# Altium footprint library semicon-chip.PcbLib: 62 footprints (part 4 of 4)
Each footprint in its own frame and in the unit in brackets; x right, y up, seen from the top. Pads: shape width x height; smd on the part's side, far side on the other; paste and mask are expansions set on the pad; w line width, h text height; cw(c..) or ccw(c..) is an arc to the next point about the centre after c.
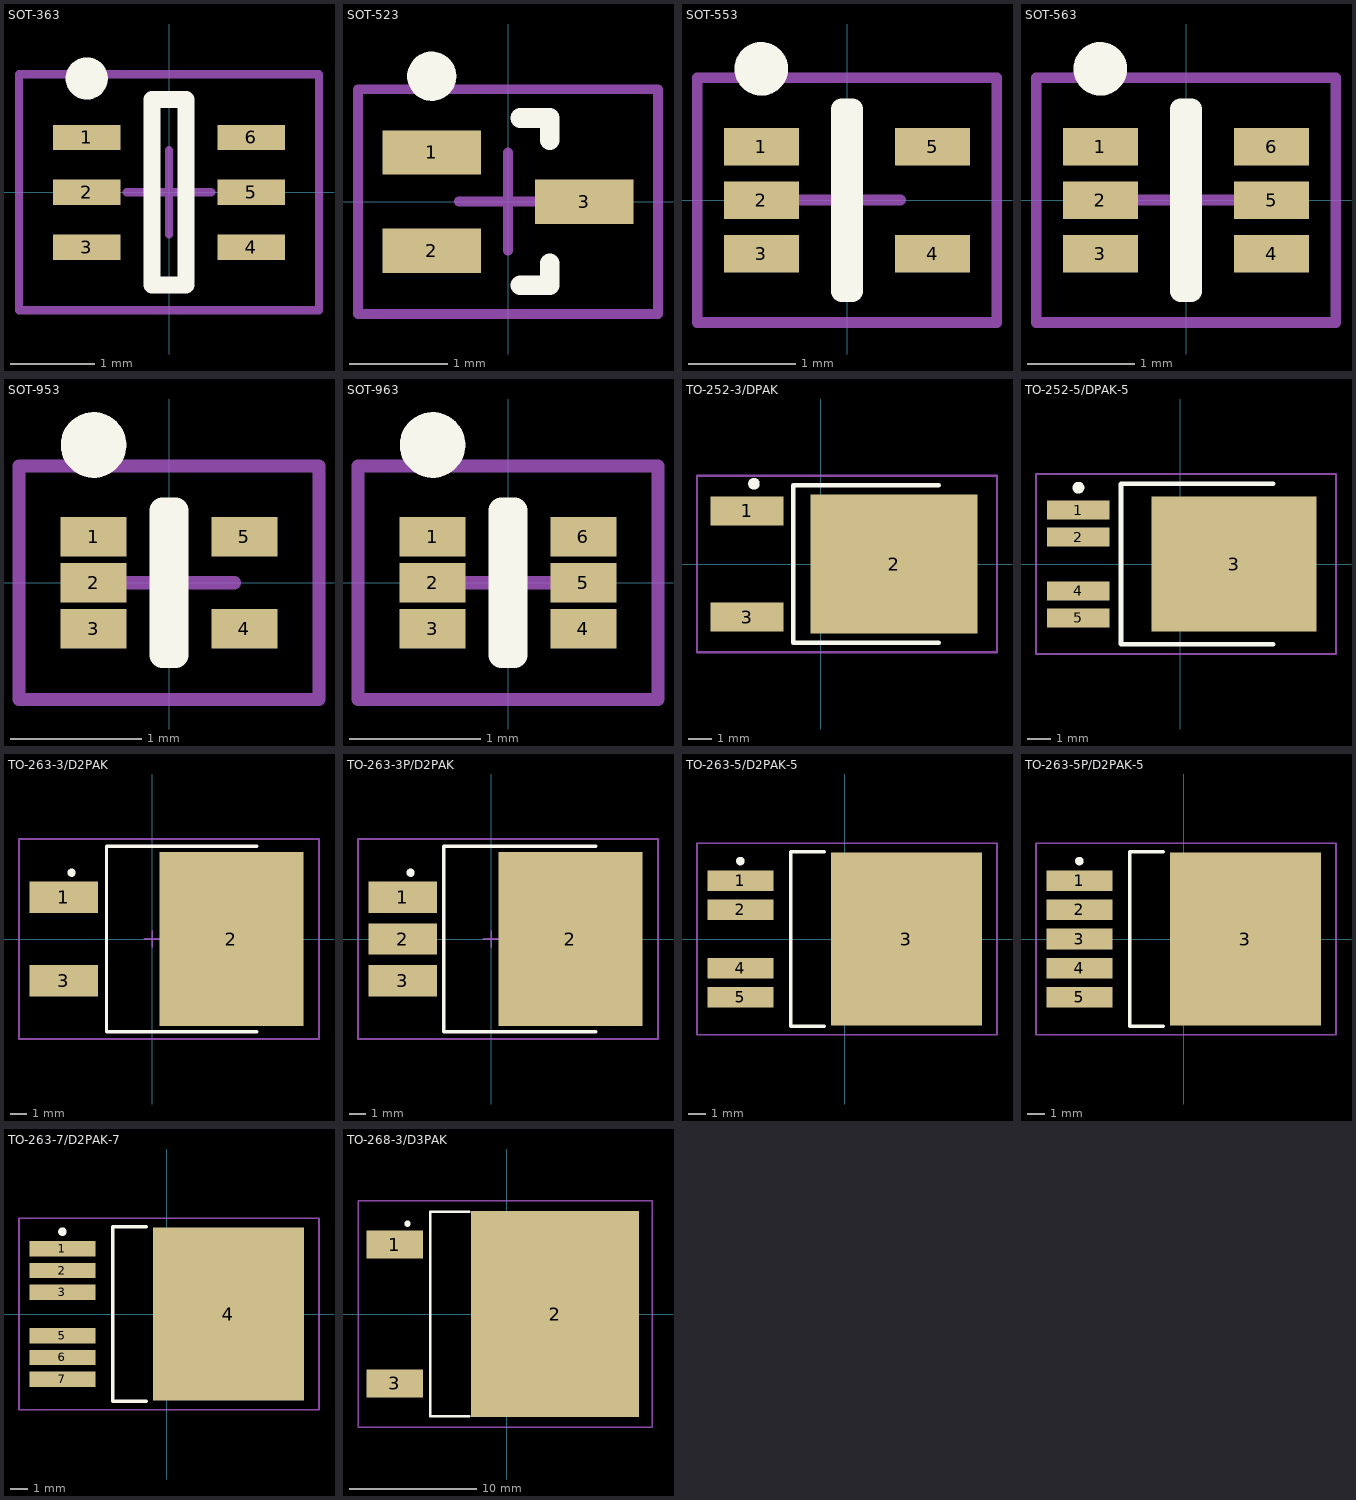
[diagram p3: the footprints below, top view; thin cyan lines are the x and y axes]

## SOT-363 [mm] "SOT23, 6-Leads, Body 2,00x2,10mm, Pitch 0,65mm, IPC Medium Density"
height 1
pads (6):
  rect 0.8x0.3 smd: 1(-0.975,0.65) 2(-0.975,0) 3(-0.975,-0.65) 4(0.975,-0.65) 5(0.975,0) 6(0.975,0.65)
Top Overlay:
  circle w0.25: c-0.975,1.35 r0.125
  lines w0.2: -0.2,-1.1 0.2,-1.1 0.2,1.1 -0.2,1.1 -0.2,-1.1
Mechanical 13:
  lines w0.1: -1.778,-1.397 -1.778,1.397 1.778,1.397 1.778,-1.397 -1.778,-1.397
  text ".Designator" at -1.46,-0.39 h0.8
Mechanical 15:
  lines w0.05: -1.778,-1.397 -1.778,1.397 1.778,1.397 1.778,-1.397 -1.778,-1.397
  lines w0.1: -0.5,0 0.5,0 ; 0,-0.5 0,0.5
3D body: height 1, standoff 0.1, extent -0.675,-1.1 0.675,1.1

## SOT-523 [mm] "SOT23, 3-Leads, Body 1,60x1,60mm, Pitch 0,50mm, IPC Medium Density"
height 0.8
pads (3):
  rect 1x0.45 smd: 1(-0.775,0.5) 2(-0.775,-0.5) 3(0.775,0)
Top Overlay:
  circle w0.25: c-0.775,1.275 r0.125
  lines w0.2: 0.125,-0.85 0.425,-0.85 0.425,-0.625 ; 0.125,0.85 0.425,0.85 0.425,0.625
Mechanical 13:
  lines w0.1: -1.524,-1.143 1.524,-1.143 1.524,1.143 -1.524,1.143 -1.524,-1.143
  text ".Designator" at -1.27,-0.36 h0.7
Mechanical 15:
  lines w0.05: -1.525,-1.143 1.525,-1.143 1.525,1.143 -1.525,1.143 -1.525,-1.143
  lines w0.1: -0.5,0 0.5,0 ; 0,-0.5 0,0.5
3D body: height 0.8, standoff 0.1, extent -0.425,-0.85 0.425,0.85

## SOT-553 [mm] "SOT23, 5-Leads, Body 1,60x1,63mm, Pitch 0,50mm, IPC Medium Density"
height 0.6
pads (5):
  rect 0.7x0.35 smd: 1(-0.8,0.5) 2(-0.8,0) 3(-0.8,-0.5) 4(0.8,-0.5) 5(0.8,0.5)
Top Overlay:
  circle w0.25: c-0.8,1.225 r0.125
  lines w0.2: -0.05,-0.85 -0.05,0.85 0.05,0.85 0.05,-0.85 -0.05,-0.85
Mechanical 13:
  lines w0.1: -1.397,-1.143 1.397,-1.143 1.397,1.143 -1.397,1.143 -1.397,-1.143
  text ".Designator" at -1.13,-0.37 h0.6
Mechanical 15:
  lines w0.05: -1.4,-1.143 1.4,-1.143 1.4,1.143 -1.4,1.143 -1.4,-1.143
  lines w0.1: -0.5,0 0.5,0 ; 0,-0.5 0,0.5
3D body: height 0.6, standoff 0.1, extent -0.625,-0.85 0.625,0.85

## SOT-563 [mm] "SOT23, 6-Leads, Body 1,60x1,63mm, Pitch 0,50mm, IPC Medium Density"
height 0.6
pads (6):
  rect 0.7x0.35 smd: 1(-0.8,0.5) 2(-0.8,0) 3(-0.8,-0.5) 4(0.8,-0.5) 5(0.8,0) 6(0.8,0.5)
Top Overlay:
  circle w0.25: c-0.8,1.225 r0.125
  lines w0.2: -0.05,-0.85 -0.05,0.85 0.05,0.85 0.05,-0.85 -0.05,-0.85
Mechanical 13:
  lines w0.1: -1.397,-1.143 1.397,-1.143 1.397,1.143 -1.397,1.143 -1.397,-1.143
  text ".Designator" at -1.18,-0.35 h0.6
Mechanical 15:
  lines w0.05: -1.4,-1.143 1.4,-1.143 1.4,1.143 -1.4,1.143 -1.4,-1.143
  lines w0.1: -0.5,0 0.5,0 ; 0,-0.5 0,0.5
3D body: height 0.6, standoff 0.1, extent -0.625,-0.85 0.625,0.85

## SOT-953 [mm] "SOT23, 5-Leads, Body 1,00x1,00mm, Pitch 0,35mm, IPC Medium Density"
height 0.5
pads (5):
  rect 0.5x0.3 smd: 1(-0.575,0.35) 2(-0.575,0) 3(-0.575,-0.35) 4(0.575,-0.35) 5(0.575,0.35)
Top Overlay:
  circle w0.25: c-0.575,1.05 r0.125
  lines w0.2: -0.05,-0.55 -0.05,0.55 0.05,0.55 0.05,-0.55 -0.05,-0.55
Mechanical 13:
  lines w0.1: -1.143,-0.889 1.143,-0.889 1.143,0.889 -1.143,0.889 -1.143,-0.889
  text ".Designator" at -0.97,-0.24 h0.5
Mechanical 15:
  lines w0.05: -1.143,-0.889 1.143,-0.889 1.143,0.889 -1.143,0.889 -1.143,-0.889
  lines w0.1: -0.5,0 0.5,0 ; 0,-0.5 0,0.5
3D body: height 0.5, standoff 0.1, extent -0.425,-0.525 0.425,0.525

## SOT-963 [mm] "SOT23, 6-Leads, Body 1,00x1,00mm, Pitch 0,35mm, IPC Medium Density"
height 0.5
pads (6):
  rect 0.5x0.3 smd: 1(-0.575,0.35) 2(-0.575,0) 3(-0.575,-0.35) 4(0.575,-0.35) 5(0.575,0) 6(0.575,0.35)
Top Overlay:
  circle w0.25: c-0.575,1.05 r0.125
  lines w0.2: -0.05,-0.55 0.05,-0.55 0.05,0.55 -0.05,0.55 -0.05,-0.55
Mechanical 13:
  lines w0.1: -1.143,-0.889 -1.143,0.889 1.143,0.889 1.143,-0.889 -1.143,-0.889
  text ".Designator" at -0.98,-0.34 h0.6
Mechanical 15:
  lines w0.05: -1.143,-0.889 -1.143,0.889 1.143,0.889 1.143,-0.889 -1.143,-0.889
  lines w0.1: -0.5,0 0.5,0 ; 0,-0.5 0,0.5
3D body: height 0.5, standoff 0.1, extent -0.425,-0.525 0.425,0.525

## TO-252-3/DPAK [mm] "D-PAK, 3-Pads, Body 6,20x6,71mm (max), IPC Medium Density"
height 2.4
pads (3):
  rect 3.15x1.25 smd: 1(-3.175,2.29) 3(-3.175,-2.29)
  rect 7.2x6 smd: 2(3.175,0)
Top Overlay:
  circle w0.25: c-2.875,3.465 r0.125
  lines w0.2: 5.1,-3.4 -1.175,-3.4 -1.175,3.4 5.1,3.4
Mechanical 13:
  lines w0.1: -5.334,-3.81 -5.334,3.81 7.62,3.81 7.62,-3.81 -5.334,-3.81
  text ".Designator" at -3.38,-0.91 h2
Mechanical 15:
  lines w0.05: -5.334,-3.81 -5.334,3.81 7.62,3.81 7.62,-3.81 -5.334,-3.81
  lines w0.1: 0.625,0 1.625,0 ; 1.125,-0.5 1.125,0.5
3D body: height 2.4, standoff 0, extent -1.225,-3.35 4.975,3.35

## TO-252-5/DPAK-5 [mm]
height 2.35
pads (5):
  rect 2.65x0.8 smd: 1(-4.3,2.28) 2(-4.3,1.14) 4(-4.3,-1.14) 5(-4.3,-2.28)
  rect 7x5.7 smd: 3(2.286,0)
Top Overlay:
  circle w0.25: c-4.3,3.23 r0.125
  lines w0.2: -2.5,-3.4 3.95,-3.4 ; -2.5,-3.35 -2.5,3.35 ; -2.5,3.4 3.95,3.4
Mechanical 13:
  lines w0.1: -6.096,-3.81 -6.096,3.81 6.604,3.81 6.604,-3.81 -6.096,-3.81
  text ".Designator" at -3.31,-1.07 h2
Mechanical 15:
  lines w0.05: -6.096,-3.81 -6.096,3.81 6.604,3.81 6.604,-3.81 -6.096,-3.81
  lines w0.1: -0.5,0 0.5,0 ; 0,-0.5 0,0.5
3D body: height 2.35, standoff 0, extent -2.5,-3.325 3.95,3.325

## TO-263-3/D2PAK [mm]
height 4.8
pads (3):
  rect 4.2x1.9 smd: 1(-5.4,2.54) 3(-5.4,-2.54)
  rect 8.8x10.6 smd: 2(4.826,0)
Top Overlay:
  circle w0.25: c-4.925,4.04 r0.125
  lines w0.2: 6.375,-5.65 -2.794,-5.65 -2.794,5.65 6.375,5.65
Mechanical 13:
  lines w0.1: -8.128,-6.096 -8.128,6.096 10.16,6.096 10.16,-6.096 -8.128,-6.096
  text ".Designator" at -3.36,-0.98 h2
Mechanical 15:
  lines w0.05: -8.128,-6.096 -8.128,6.096 10.16,6.096 10.16,-6.096 -8.128,-6.096
  lines w0.1: -0.5,0 0.5,0 ; 0,-0.5 0,0.5
3D body: height 4.8, standoff 0, extent -2.975,-5.35 6.675,5.35

## TO-263-3P/D2PAK [mm]
height 4.8
pads (4):
  rect 4.2x1.9 smd: 1(-5.4,2.54) 2(-5.4,0) 3(-5.4,-2.54)
  rect 8.8x10.6 smd: 2(4.826,0)
Top Overlay:
  circle w0.25: c-4.925,4.04 r0.125
  lines w0.2: 6.375,-5.65 -2.9,-5.65 -2.9,5.65 6.375,5.65
Mechanical 13:
  lines w0.1: -8.128,-6.096 10.16,-6.096 10.16,6.096 -8.128,6.096 -8.128,-6.096
  text ".Designator" at -3.37,-0.97 h2
Mechanical 15:
  lines w0.05: -8.128,-6.096 10.16,-6.096 10.16,6.096 -8.128,6.096 -8.128,-6.096
  lines w0.1: -0.5,0 0.5,0 ; 0,-0.5 0,0.5
3D body: height 4.8, standoff 0, extent -2.975,-5.35 6.675,5.35

## TO-263-5/D2PAK-5 [mm]
height 4.4
pads (5):
  rect 3.85x1.2 smd: 1(-6.1,3.4) 2(-6.1,1.7) 4(-6.1,-1.7) 5(-6.1,-3.4)
  rect 8.8x10.1 smd: 3(3.6,0)
Top Overlay:
  circle w0.25: c-6.1,4.55 r0.125
  lines w0.2: -1.2,-5.1 -3.15,-5.1 -3.15,5.1 -1.2,5.1
Mechanical 13:
  lines w0.1: -8.636,-5.588 -8.636,5.588 8.89,5.588 8.89,-5.588 -8.636,-5.588
  text ".Designator" at -3.31,-1.01 h2
Mechanical 15:
  lines w0.05: -8.636,-5.588 -8.636,5.588 8.89,5.588 8.89,-5.588 -8.636,-5.588
  lines w0.1: -0.5,0 0.5,0 ; 0,-0.5 0,0.5
3D body: height 4.4, standoff 0, extent -3.15,-5.1 6.3,5.1

## TO-263-5P/D2PAK-5 [mm]
height 4.4
pads (6):
  rect 3.85x1.2 smd: 1(-6.1,3.4) 2(-6.1,1.7) 3(-6.1,0) 4(-6.1,-1.7) 5(-6.1,-3.4)
  rect 8.8x10.1 smd: 3(3.6,0)
Top Overlay:
  circle w0.25: c-6.1,4.55 r0.125
  lines w0.2: -1.2,-5.1 -3.15,-5.1 -3.15,5.1 -1.2,5.1
Mechanical 13:
  lines w0.1: -8.636,-5.588 8.89,-5.588 8.89,5.588 -8.636,5.588 -8.636,-5.588
  text ".Designator" at -3.31,-1.01 h2
Mechanical 15:
  lines w0.05: -8.636,-5.588 8.89,-5.588 8.89,5.588 -8.636,5.588 -8.636,-5.588
  lines w0.1: -0.5,0 0.5,0 ; 0,-0.5 0,0.5
3D body: height 4.4, standoff 0, extent -3.15,-5.1 6.3,5.1

## TO-263-7/D2PAK-7 [mm]
height 4.4
pads (7):
  rect 3.85x0.9 smd: 1(-6.1,3.81) 2(-6.1,2.54) 3(-6.1,1.27) 5(-6.1,-1.27) 6(-6.1,-2.54) 7(-6.1,-3.81)
  rect 8.8x10.1 smd: 4(3.6,0)
Top Overlay:
  circle w0.25: c-6.1,4.81 r0.125
  lines w0.2: -1.2,-5.1 -3.15,-5.1 -3.15,5.1 -1.2,5.1
Mechanical 13:
  lines w0.1: -8.636,-5.588 8.89,-5.588 8.89,5.588 -8.636,5.588 -8.636,-5.588
  text ".Designator" at -3.32,-1.02 h2
Mechanical 15:
  lines w0.05: -8.636,-5.588 8.89,-5.588 8.89,5.588 -8.636,5.588 -8.636,-5.588
  lines w0.1: -0.5,0 0.5,0 ; 0,-0.5 0,0.5
3D body: height 4.4, standoff 0, extent -3.15,-5.1 6.3,5.1

## TO-268-3/D3PAK [mm]
height 5.1
pads (3):
  rect 4.45x2.2 smd: 1(-8.8,5.45) 3(-8.8,-5.45)
  rect 13.2x16.15 smd: 2(3.81,0)
Top Overlay:
  circle w0.25: c-7.8,7.1 r0.125
  lines w0.2: -2.95,-8.05 -6,-8.05 -6,8.05 -2.95,8.05
Mechanical 13:
  lines w0.1: -11.684,-8.89 -11.684,8.89 11.43,8.89 11.43,-8.89 -11.684,-8.89
  text ".Designator" at -3.39,-0.97 h2
Mechanical 15:
  lines w0.05: -11.684,-8.89 -11.684,8.89 11.43,8.89 11.43,-8.89 -11.684,-8.89
  lines w0.1: -0.5,0 0.5,0 ; 0,-0.5 0,0.5
3D body: height 5.1, standoff 0, extent -6.75,-8.025 8.4,8.025